# EAGLE library part SSQ-110-03 (library KVB-connectors)
ARDUINO SHIELD CONN RCPT .100" 10POS SNGL GOLD
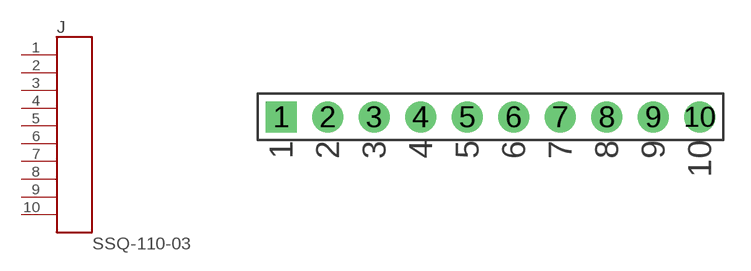
[diagram p18: symbol with the pads of SSQ-110-03; footprint SSQ-110-03]

Designator prefix J

## SSQ-110-03  [SSQ-110-03]
1  P$1
2  P$2
3  P$3
4  P$4
5  P$5
6  P$6
7  P$7
8  P$8
9  P$9
10  P$10

## Footprint SSQ-110-03 (pad centres in mm)
drill 1.016 pad 1.676 square: 1 -11.43,0
drill 1.016 pad 1.676: 2 -8.89,0; 3 -6.35,0; 4 -3.81,0; 5 -1.27,0; 6 1.27,0; 7 3.81,0; 8 6.35,0; 9 8.89,0; 10 11.43,0